# Altium footprint library PcbLib1.PcbLib: 1 footprints
Each footprint in its own frame and in the unit in brackets; x right, y up, seen from the top. Pads: shape width x height; smd on the part's side, far side on the other; paste and mask are expansions set on the pad; w line width, h text height; cw(c..) or ccw(c..) is an arc to the next point about the centre after c.
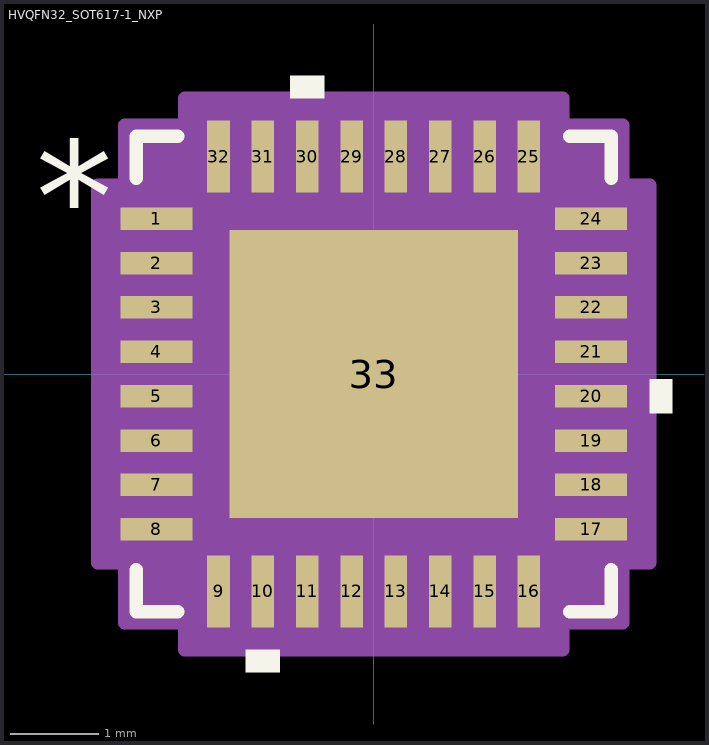
[diagram p0: the footprint, top view; thin cyan lines are the x and y axes]

## HVQFN32_SOT617-1_NXP [mil]
pads (33):
  rect 32x10 smd paste+0 mask+0: 1(-96.5,68.9) 2(-96.5,49.21) 3(-96.5,29.53) 4(-96.5,9.84) 5(-96.5,-9.84) 6(-96.5,-29.53) 7(-96.5,-49.21) 8(-96.5,-68.9) 17(96.5,-68.9) 18(96.5,-49.21) 19(96.5,-29.53) 20(96.5,-9.84) 21(96.5,9.84) 22(96.5,29.53) 23(96.5,49.21) 24(96.5,68.9)
  rect 10x32 smd paste+0 mask+0: 9(-68.9,-96.5) 10(-49.21,-96.5) 11(-29.53,-96.5) 12(-9.84,-96.5) 13(9.84,-96.5) 14(29.53,-96.5) 15(49.21,-96.5) 16(68.9,-96.5) 25(68.9,96.5) 26(49.21,96.5) 27(29.53,96.5) 28(9.84,96.5) 29(-9.84,96.5) 30(-29.53,96.5) 31(-49.21,96.5) 32(-68.9,96.5)
  rect 128x128 smd paste-63.5 mask+0: 33(0,0)
Top Overlay:
  region: -41.71,-122.5 -56.71,-122.5 -56.71,-132.5 -41.71,-132.5
  region: 122.5,-2.34 132.5,-2.34 132.5,-17.34 122.5,-17.34
  region: -22.03,122.5 -37.03,122.5 -37.03,132.5 -22.03,132.5
  lines w6: -105.5,-87 -105.5,-105.5 -87,-105.5 ; -105.5,87 -105.5,105.5 -87,105.5 ; 87,-105.5 105.5,-105.5 105.5,-87 ; 87,105.5 105.5,105.5 105.5,87
  text "*" at -150,53.74 h50
Top Paste:
  region: -3.94,60.06 -60.06,60.06 -60.06,3.94 -3.94,3.94
  region: -3.94,-3.94 -60.06,-3.94 -60.06,-60.06 -3.94,-60.06
  region: 60.06,60.06 3.94,60.06 3.94,3.94 60.06,3.94
  region: 60.06,-3.94 3.94,-3.94 3.94,-60.06 60.06,-60.06
Mechanical 13:
  lines w1: -100.5,50.5 -50.5,100.5 ; -100.5,-100.5 100.5,-100.5 100.5,100.5 -100.5,100.5 -100.5,-100.5 ; -100.5,-74.9 -100.5,-62.9 -100.5,-74.9 ; -100.5,-55.21 -100.5,-43.21 -100.5,-55.21 ; -100.5,-35.53 -100.5,-23.53 -100.5,-35.53 ; -100.5,-15.84 -100.5,-3.84 -100.5,-15.84 ; -100.5,3.84 -100.5,15.84 -100.5,3.84 ; -100.5,23.53 -100.5,35.53 -100.5,23.53 ; -100.5,43.21 -100.5,55.21 -100.5,43.21 ; -100.5,62.9 -100.5,74.9 -100.5,62.9 ; -74.9,-100.5 -62.9,-100.5 -74.9,-100.5 ; -74.9,100.5 -62.9,100.5 -74.9,100.5 ; -55.21,-100.5 -43.21,-100.5 -55.21,-100.5 ; -55.21,100.5 -43.21,100.5 -55.21,100.5 ; -35.53,-100.5 -23.53,-100.5 -35.53,-100.5 ; -35.53,100.5 -23.53,100.5 -35.53,100.5 ; -15.84,-100.5 -3.84,-100.5 -15.84,-100.5 ; -15.84,100.5 -3.84,100.5 -15.84,100.5 ; 3.84,-100.5 15.84,-100.5 3.84,-100.5 ; 3.84,100.5 15.84,100.5 3.84,100.5 ; 23.53,-100.5 35.53,-100.5 23.53,-100.5 ; 23.53,100.5 35.53,100.5 23.53,100.5 ; 43.21,-100.5 55.21,-100.5 43.21,-100.5 ; 43.21,100.5 55.21,100.5 43.21,100.5 ; 62.9,-100.5 74.9,-100.5 62.9,-100.5 ; 62.9,100.5 74.9,100.5 62.9,100.5 ; 100.5,-74.9 100.5,-62.9 100.5,-74.9 ; 100.5,-55.21 100.5,-43.21 100.5,-55.21 ; 100.5,-35.53 100.5,-23.53 100.5,-35.53 ; 100.5,-15.84 100.5,-3.84 100.5,-15.84 ; 100.5,3.84 100.5,15.84 100.5,3.84 ; 100.5,23.53 100.5,35.53 100.5,23.53 ; 100.5,43.21 100.5,55.21 100.5,43.21 ; 100.5,62.9 100.5,74.9 100.5,62.9
  text "*" at -93,53.74 h50
Mechanical 15:
  region: -83.9,-110.5 -110.5,-110.5 -110.5,-83.9 -122.5,-83.9 -122.5,83.9 -110.5,83.9 -110.5,110.5 -83.9,110.5 -83.9,122.5 83.9,122.5 83.9,110.5 110.5,110.5 110.5,83.9 122.5,83.9 122.5,-83.9 110.5,-83.9 110.5,-110.5 83.9,-110.5 83.9,-122.5 -83.9,-122.5
  lines w6: -122.5,-83.9 -110.5,-83.9 -110.5,-110.5 -83.9,-110.5 -83.9,-122.5 83.9,-122.5 83.9,-110.5 110.5,-110.5 110.5,-83.9 122.5,-83.9 122.5,83.9 110.5,83.9 110.5,110.5 83.9,110.5 83.9,122.5 -83.9,122.5 -83.9,110.5 -110.5,110.5 -110.5,83.9 -122.5,83.9 -122.5,-83.9
3D body "HVQFN32_SOT617-1_NXP.step": height 39.09, standoff 0, extent -100.51,-100.51 100.51,100.51